# Altium footprint library ST-Link-V2.2-Mini.PcbLib: 11 footprints
Each footprint in its own frame and in the unit in brackets; x right, y up, seen from the top. Pads: shape width x height; smd on the part's side, far side on the other; paste and mask are expansions set on the pad; w line width, h text height; cw(c..) or ccw(c..) is an arc to the next point about the centre after c.
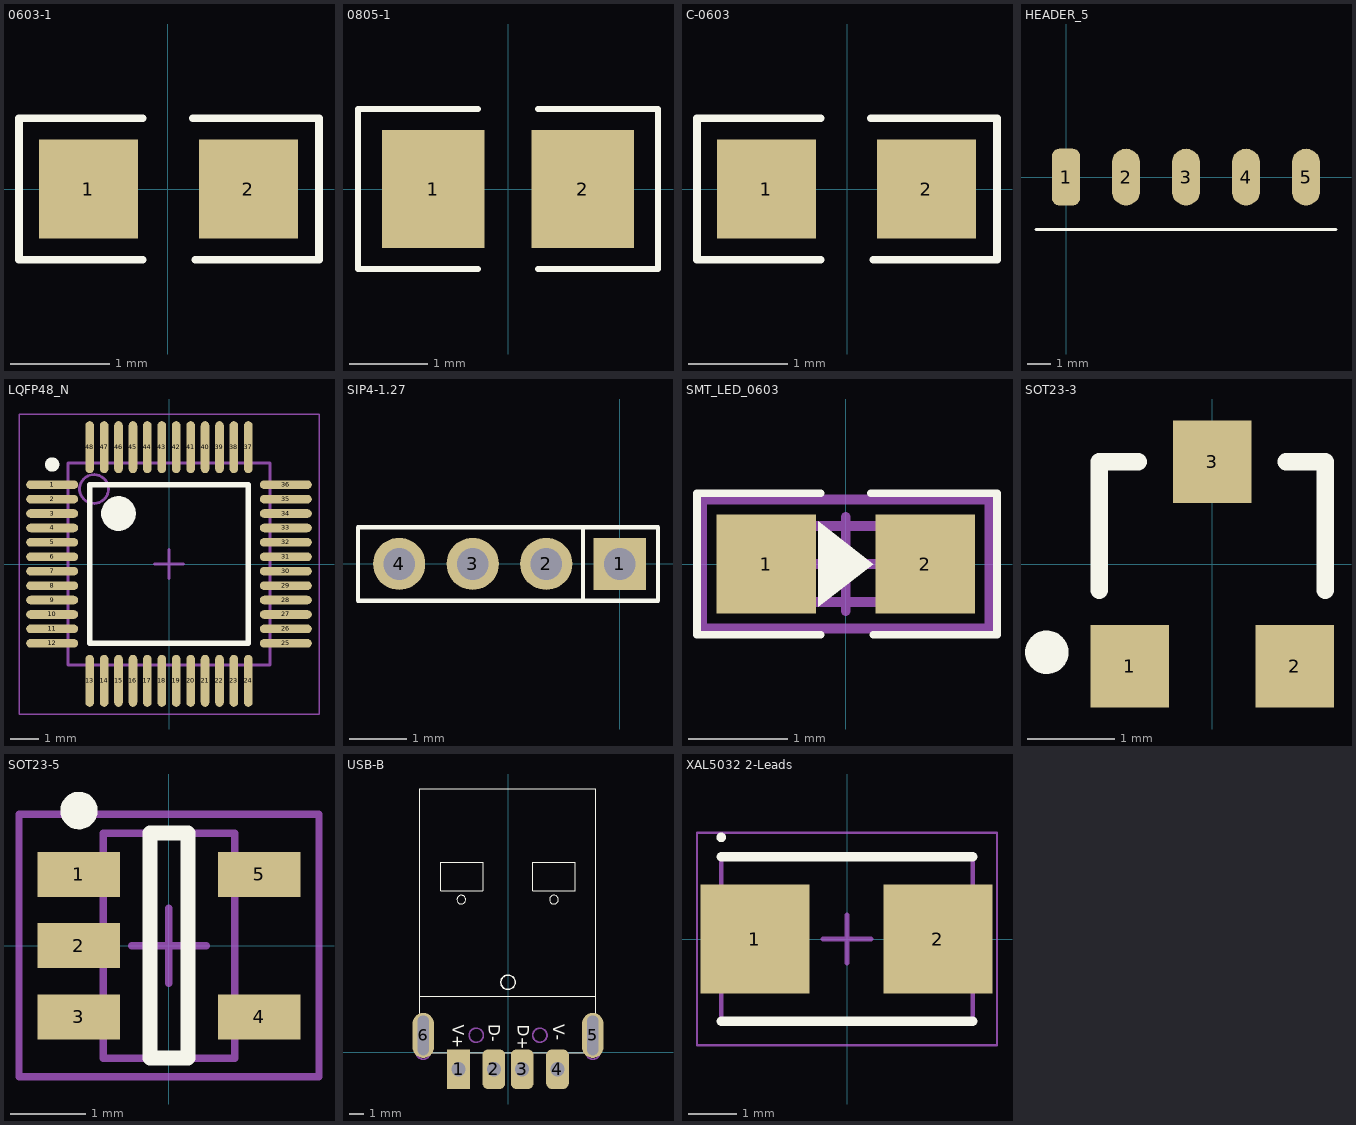
[diagram p0: the footprints below, top view; thin cyan lines are the x and y axes]

## 0603-1 [mm] "0603带?"
height 0.6
pads (2):
  rect 1x1 smd: 1(-0.799,0) 2(0.813,0)
Top Overlay:
  lines w0.076: -0.254,-0.711 -1.499,-0.711 -1.499,0.711 -0.254,0.711 ; 0.254,0.711 1.524,0.711 1.524,-0.711 0.279,-0.711
3D body: height 0.3, standoff 0, extent -0.8,-0.4 0.8,0.4

## 0805-1 [mm]
height 1.1
pads (2):
  rect 1.3x1.5 smd: 1(-0.95,0) 2(0.95,0)
Top Overlay:
  lines w0.076: -0.381,-1.016 -1.905,-1.016 -1.905,1.016 -0.381,1.016 ; 0.381,-1.016 1.905,-1.016 1.905,1.016 0.381,1.016
3D body: height 0.5, standoff 0, extent -1,-0.625 1,0.625

## C-0603 [mm] "贴?"
height 0.6
pads (2):
  rect 1x1 smd: 1(-0.813,0) 2(0.799,0)
Top Overlay:
  lines w0.076: -0.268,-0.711 -1.512,-0.711 -1.512,0.711 -0.268,0.711 ; 0.24,0.711 1.51,0.711 1.51,-0.711 0.266,-0.711
3D body: height 0.3, standoff 0, extent -0.8,-0.4 0.8,0.4

## HEADER_5 [mm]
pads (5):
  rrect50% 1.2x2.4 smd: 1(0,0)
  oval 1.2x2.4 smd: 2(2.54,0) 3(5.08,0) 4(7.62,0) 5(10.16,0)
Top Overlay:
  lines w0.127: -1.27,-2.21 11.43,-2.21
3D body: height 1.78, standoff -0.76, extent -1.27,-10.75 11.43,0.79

## LQFP48_N [mm] "Thin QFP, 48-Leads, Body 7x7mm, Pitch 0.5mm, IPC Medium Density"
height 1.6
pads (48):
  oval 1.8x0.3 smd: 1(-4.05,2.75) 2(-4.05,2.25) 3(-4.05,1.75) 4(-4.05,1.25) 5(-4.05,0.75) 6(-4.05,0.25) 7(-4.05,-0.25) 8(-4.05,-0.75) 9(-4.05,-1.25) 10(-4.05,-1.75) 11(-4.05,-2.25) 12(-4.05,-2.75) 25(4.05,-2.75) 26(4.05,-2.25) 27(4.05,-1.75) 28(4.05,-1.25) 29(4.05,-0.75) 30(4.05,-0.25) 31(4.05,0.25) 32(4.05,0.75) 33(4.05,1.25) 34(4.05,1.75) 35(4.05,2.25) 36(4.05,2.75)
  oval 0.3x1.8 smd: 13(-2.75,-4.05) 14(-2.25,-4.05) 15(-1.75,-4.05) 16(-1.25,-4.05) 17(-0.75,-4.05) 18(-0.25,-4.05) 19(0.25,-4.05) 20(0.75,-4.05) 21(1.25,-4.05) 22(1.75,-4.05) 23(2.25,-4.05) 24(2.75,-4.05) 37(2.75,4.05) 38(2.25,4.05) 39(1.75,4.05) 40(1.25,4.05) 41(0.75,4.05) 42(0.25,4.05) 43(-0.25,4.05) 44(-0.75,4.05) 45(-1.25,4.05) 46(-1.75,4.05) 47(-2.25,4.05) 48(-2.75,4.05)
Top Overlay:
  circle w0.25: c-4.05,3.45 r0.125
  circle w0.6: c-1.75,1.75 r0.3
  lines w0.2: -2.75,-2.75 -2.75,2.75 2.75,2.75 2.75,-2.75 -2.75,-2.75
Mechanical 13:
  circle w0.1: c-2.6,2.6 r0.5
  lines w0.1: -3.5,-3.5 -3.5,3.5 3.5,3.5 3.5,-3.5 -3.5,-3.5
Mechanical 15:
  lines w0.05: -5.2,-5.2 -5.2,5.2 5.2,5.2 5.2,-5.2 -5.2,-5.2
  lines w0.1: -0.5,0 0.5,0 ; 0,-0.5 0,0.5
3D body: height 1.45, standoff 0, extent -4.53,-4.475 4.47,4.525

## SIP4-1.27 [mm]
pads (4):
  rect 0.9x0.9 hole 0.55: 1(0,0)
  round 0.9 hole 0.55: 2(-1.27,0) 3(-2.54,0) 4(-3.81,0)
Top Overlay:
  lines w0.076: -0.635,-0.64 -0.635,0.6 ; -4.521,-0.64 0.66,-0.64 0.66,0.635 -4.521,0.635 -4.521,-0.64

## SMT_LED_0603 [mm]
height 0.85
pads (2):
  rect 1x1 smd: 1(-0.8,0) 2(0.8,0)
Top Overlay:
  region: -0.279,0.432 0.279,0 -0.279,-0.432
  lines w0.076: -0.254,-0.711 -1.499,-0.711 -1.499,0.711 -0.254,0.711 ; 0.254,0.711 1.524,0.711 1.524,-0.711 0.279,-0.711
Mechanical 13:
  lines w0.1: -1.016,-0.381 1.016,-0.381 1.016,0.381 -1.016,0.381 -1.016,-0.381
Mechanical 15:
  lines w0.1: -0.475,0 0.475,0 ; 0,-0.475 0,0.475 ; -1.448,-0.65 1.448,-0.65 1.448,0.65 -1.448,0.65 -1.448,-0.65
3D body: height 0.6, standoff 0, extent -0.81,-0.4 0.81,0.4

## SOT23-3 [mm]
height 1.1
pads (3):
  rect 0.9x0.95 smd: 1(-0.95,-1.175) 2(0.95,-1.175) 3(0,1.175)
Top Overlay:
  circle w0.25: c-1.903,-1.016 r0.125
  lines w0.2: -1.3,-0.3 -1.3,1.175 -0.85,1.175 ; 0.85,1.175 1.3,1.175 1.3,-0.3
3D body: height 1.2, standoff 0, extent -1.45,-1.4 1.45,1.4

## SOT23-5 [mm] "Max4173"
height 1.45
pads (5):
  rect 1.1x0.6 smd: 1(-1.2,0.95) 2(-1.2,0) 3(-1.2,-0.95) 4(1.2,-0.95) 5(1.2,0.95)
Top Overlay:
  circle w0.25: c-1.2,1.8 r0.125
  lines w0.2: -0.25,-1.5 -0.25,1.5 0.25,1.5 0.25,-1.5 -0.25,-1.5
Mechanical 13:
  lines w0.1: -0.875,-1.5 0.875,-1.5 0.875,1.5 -0.875,1.5 -0.875,-1.5
Mechanical 15:
  lines w0.1: -0.5,0 0.5,0 ; 0,-0.5 0,0.5 ; -2,-1.75 2,-1.75 2,1.75 -2,1.75 -2,-1.75
3D body: height 1.2, standoff 0, extent -1.4,-1.45 1.4,1.45

## USB-B [mm]
pads (6):
  rect 1.6x2.8 hole 1: 1(-3.5,-1.195)
  rrect50% 1.6x2.8 hole 1: 2(-1,-1.195) 3(1,-1.195) 4(3.5,-1.195)
  oval 1.5x3.2 hole 0.8 slot 2.8 at 90 deg: 5(5.994,1.195) 6(-5.994,1.195)
Top Overlay:
  circle w0.05: c3.249,10.797 r0.307
  circle w0.05: c-3.304,10.797 r0.307
  circle w0.1: c0,4.951 r0.506
  lines w0.05: -6.248,-0.075 -6.223,-0.049 -3.531,-0.049 6.172,-0.049 6.248,-0.125 ; -6.248,-0.049 -6.248,18.62 6.223,18.62 6.223,-0.075 ; -6.248,3.964 -6.235,3.951 0,3.951 6.211,3.951 ; -3.5,-1.195 -3.5,-0.857 ; -1.75,11.438 -1.75,13.438 -4.75,13.438 -4.75,11.438 -1.769,11.438 -1.75,11.457 ; 1.75,11.438 4.75,11.438 4.75,13.438 1.75,13.438 1.75,11.438
  text "D-" at -1.348,1.968 h0.8
  text "V-" at 3.188,1.985 h0.8
  text "V+" at -3.9,1.952 h0.8
  text "D+" at 0.681,1.95 h0.8
Mechanical 1:
  circle w0.127: c2.255,1.207 r0.5
  circle w0.127: c-2.245,1.207 r0.5
  lines w0.127: -6.495,0.007 ccw(c-5.995,0.007) -5.495,0.007 -5.495,1.807 ccw(c-5.995,1.807) -6.495,1.807 -6.495,0.007 ; 5.505,0.007 ccw(c6.005,0.007) 6.505,0.007 6.505,1.807 ccw(c6.005,1.807) 5.505,1.807 5.505,0.007
3D body: height 4.52, standoff -1.18, extent -6.25,-1.425 6.25,18.605

## XAL5032 2-Leads [mm] "DFN, 2-Leads, Body 3.20x5.00mm, Pitch 3.70mm, IPC Low Density"
height 0.45
pads (2):
  rect 2.25x2.25 smd: 1(-1.905,0) 2(1.88,0)
Top Overlay:
  circle w0.1: c-2.6,2.1 r0.05
  lines w0.2: -2.6,-1.7 2.6,-1.7 ; -2.6,1.7 2.6,1.7
Mechanical 13:
  lines w0.1: -2.6,-1.7 2.6,-1.7 2.6,1.7 -2.6,1.7 -2.6,-1.7
Mechanical 15:
  lines w0.05: -3.1,-2.2 3.1,-2.2 3.1,2.2 -3.1,2.2 -3.1,-2.2
  lines w0.1: -0.5,0 0.5,0 ; 0,-0.5 0,0.5
3D body: height 1, standoff 0, extent -2.5,-1.6 2.5,1.6